# EAGLE library part USB-C (library usb_c)
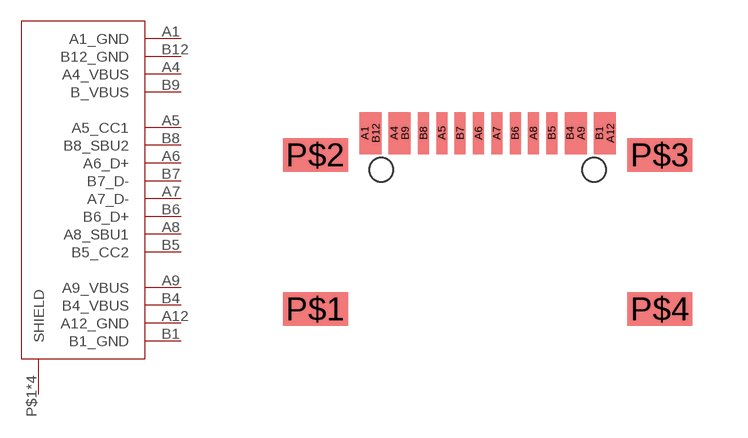
[diagram p0: symbol with the pads of USB-C_16P; footprint USB-C_16P]

Designator prefix -

## USB-C  [USB-C_16P]
A1  A1_GND
A4  A4_VBUS
A5  A5_CC1
A6  A6_D+
A7  A7_D-
A8  A8_SBU1
A9  A9_VBUS
A12  A12_GND
B1  B1_GND
B4  B4_VBUS
B5  B5_CC2
B6  B6_D+
B7  B7_D-
B8  B8_SBU2
B9  B_VBUS
B12  B12_GND
P$1  SHIELD
P$2  SHIELD
P$3  SHIELD
P$4  SHIELD

## Footprint USB-C_16P (pad centres in mm)
smd 0.3 x 1.15: A1 -3.35,0.6; A4 -2.55,0.6; A5 -1.25,0.6; A6 -0.25,0.6; A7 0.25,0.6; A8 1.25,0.6; A9 2.55,0.6; A12 3.35,0.6; B1 3.05,0.6; B4 2.25,0.6; B5 1.75,0.6; B6 0.75,0.6; B7 -0.75,0.6; B8 -1.75,0.6; B9 -2.25,0.6; B12 -3.05,0.6
smd 1.778 x 0.914: P$1 -4.7,-4.2; P$2 -4.7,0; P$3 4.7,0; P$4 4.7,-4.2
hole 0.65 at -2.9,-0.4
hole 0.65 at 2.9,-0.4